# Altium integrated library BaseMergeCircuit.IntLib: 3 symbols
Pins are listed as number, name and electrical type; pins without a type are passive.

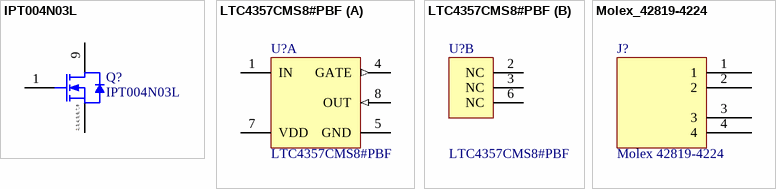
[diagram p0: symbols IPT004N03L to Molex_42819-4224]

## IPT004N03L
designator Q?
N-Channel OptiMOS(TM) Power-MOSFET, 30 V VDS, 300 A ID, -55 to 175 degC, PG-HSOF-8, Reel, Green; Manufacturer: Infineon; Green: TRUE; ID (max): 300 A; IDpuls (max): 1,200 A; Polarity: FALSE; Ptot (max): 300 W; QG: 122 nC; RDS (on) (max): 0.4 mOhm; RthJA (max): 40 K/W; RthJC (max): 0.5 K/W; VDS (max): 30 V; VGS(th) (max): 2.2 V; VGS(th) (min): 0.7 V; DatasheetVersion: Rev. 1.2; PackageVersion: Rev. 04; PackageReference: PG-HSOF-8-1; PackageDescription: 8-Pin Plastic (Green) Heatlink Small Outline Flat Leads Package, 10.375 x 9.9 mm Body, 0.8 mm Pitch; Supplier 1: Mouser; Supplier Part Number 1: N/A; Halogen-free: TRUE; Packing: Reel; Technology: OptiMOS(TM); Mounting Technology: Surface Mount; PartNumber: IPT004N03L; ComponentLink1Description: Manufacturer URL; ComponentLink1URL: http://www.infineon.com/; ComponentLink2Description: Datasheet; ComponentLink2URL: http://www.infineon.com/dgdl/IPT004N03L_rev1.2.pdf?folderId=db3a304313b8b5a60113cee8763b02d7&fileId=db3a30433e9d5d11013e9e0f382600c2; ComponentLink3Description: Package Specification; ComponentLink3URL: http://www.infineon.com/cms/packages/SMD_-_Surface_Mounted_Devices/P-PG-HSOF/P-PG-HSOF-08-1.html?__locale=en
footprint INF-PG-HSOF-8-1_V (HSOF, 8-Leads, Body 11.675x9.9mm, Pitch 1.2mm)
pins: 1 GATE, 2 S, 3 S, 4 S, 5 S, 6 S, 7 S, 8 S, 9 D
text: 2, 3, 4, 5, 6, 7, 8

## LTC4357CMS8#PBF
designator U?
Positive High Voltage Ideal Diode Controller, 9 to 80 V Vin, 8-pin SOP (MS8-8), 0 to 70 degC, Pb-Free; Manufacturer: Linear Technology; Ideal Diode: Single, External, N-Channel; DatasheetVersion: Rev. D; PackageVersion: Rev. G, 03/2012; PackageReference: MS8-8; PackageDescription: 8-Pin Plastic MSOP, Body 3 x 3 mm, Pitch 0.65 mm; Supplier 1: Digi-Key; Supplier Part Number 1: LTC4357CMS8#PBF-ND; Supplier 2: Farnell; Supplier Part Number 2: 1432779; Supplier 3: Newark; Supplier Part Number 3: 56M9468; RoHS: TRUE; Mounting Technology: Surface Mount; PartNumber: LTC4357CMS8#PBF; ComponentLink1Description: Manufacturer URL; ComponentLink1URL: http://www.linear.com/; ComponentLink2Description: Datasheet; ComponentLink2URL: http://cds.linear.com/docs/en/datasheet/4357fd.pdf; ComponentLink3Description: Package Specification; ComponentLink3URL: http://cds.linear.com/docs/en/packaging/05081660_G_MS8.pdf
footprint LT-MS8-8_N (SOP, 8-Leads, Body 3.1x3.1mm, Pitch 0.65mm, IPC Medium Density)
footprint LT-MS8-8_L (SOP, 8-Leads, Body 3.1x3.1mm, Pitch 0.65mm, IPC High Density)
footprint LT-MS8-8_M (SOP, 8-Leads, Body 3.1x3.1mm, Pitch 0.65mm, IPC Low Density)
part A pins: 1 IN (power) "Input Voltage and GATE Fast Pull-Down Return. IN is the anode of the ideal diode and connects to the source of the N-channel MOSFET. The voltage sensed at this pin is used to control the source-drain voltage across the (See Datasheet)", 4 GATE (out) "Gate Drive Output. The GATE pin pulls high, enhancing the N-channel MOSFET when the load current creates more than 25mV of voltage drop across the MOSFET. When the load current is small, the gate is actively driven to (See Datasheet)", 5 GND (power) "Device Ground.", 7 VDD (power) "Positive Supply Input. The LTC4357 is powered from the VDD pin. Connect this pin to OUT either directly or through an RC hold-up circuit.", 8 OUT (in) "Drain Voltage Sense. OUT is the cathode of the ideal diode and the common output when multiple LTC4357s are configured as an ideal diode-OR. It connects to the drain of the N-channel MOSFET. The voltage sensed at this pin is (See Datasheet)"
part B pins: 2 NC "No Connection. Not internally connected.", 3 NC "No Connection. Not internally connected.", 6 NC "No Connection. Not internally connected."

## Molex_42819-4224
designator J?, comment Molex 42819-4224
footprint MOLEX_42819-4224
pins: 1, 2, 3, 4